# Altium integrated library Motorola Automotive Direction Indicator.IntLib: 2 symbols
Pins are listed as number, name and electrical type; pins without a type are passive.

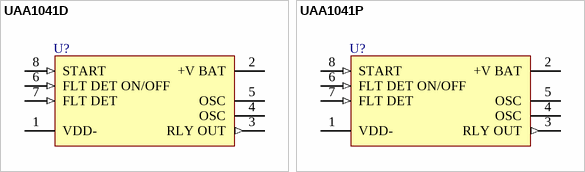
[diagram p0: symbols UAA1041D to UAA1041P]

## UAA1041D
designator U?
Automotive Direction Indicator; Published: 17-Jul-2002; LatestRevisionDate: 13-Apr-2006; LatestRevisionNote: IPC-7351 Footprint Added.; DatasheetVersion: 1988; PackageReference: 751-02; Publisher: Altium Limited; PackageDescription: 8-Pin Small Outline Integrated Circuit 1.27 mm Pitch; Code_JEDEC: MS-012-AA; Code_IPC: SOIC127P600-8
footprint 751-02_N (SOIC, 8-Leads, Body 4.9x3.9mm, Pitch 1.27mm, IPC Medium Density)
footprint 751-02_L (SOIC, 8-Leads, Body 4.9x3.9mm, Pitch 1.27mm, IPC High Density)
footprint 751-02_M (SOIC, 8-Leads, Body 4.9x3.9mm, Pitch 1.27mm, IPC Low Density)
3D model 751-02 (8-Pin Small Outline Integrated Circuit 1.27 mm Pitch)
pins: 1 VDD- (power), 2 +V BAT (power), 3 RLY OUT (out), 4 OSC, 5 OSC, 6 FLT DET ON/OFF (in), 7 FLT DET (in), 8 START (in)

## UAA1041P
designator U?
Automotive Direction Indicator; Published: 17-Jul-2002; LatestRevisionDate: 06-Jun-2005; LatestRevisionNote: Stylized 3D Model Added.; DatasheetVersion: 1988; PackageReference: 626-05; Publisher: Altium Limited; PackageDescription: DIP; 8 Leads; Row Spacing 7.62 mm; Pitch 2.54 mm
footprint 626-05 (DIP; 8 Leads; Row Spacing 7.62 mm; Pitch 2.54 mm)
3D model 626-05 (DIP; 8 Leads; Row Spacing 7.62 mm; Pitch 2.54 mm)
pins: 1 VDD- (power), 2 +V BAT (power), 3 RLY OUT (out), 4 OSC, 5 OSC, 6 FLT DET ON/OFF (in), 7 FLT DET (in), 8 START (in)